# EAGLE library part H3LIS331DL (library KwanSystems)
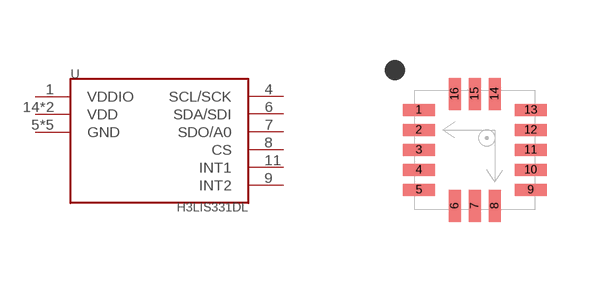
[diagram p19: symbol with the pads of LLGA16; footprint LLGA16]

Designator prefix -

## H3LIS331DL  [LLGA16]
1  VDDIO
4  SCL/SCK
5  GND
6  SDA/SDI
7  SDO/A0
8  CS
9  INT2
10  GND
11  INT1
12  GND
13  GND
14  VDD
15  VDD
16  GND

## Footprint LLGA16 (pad centres in mm)
smd 0.8 x 0.3: 1 -1.4,1; 2 -1.4,0.5; 3 -1.4,0; 4 -1.4,-0.5; 5 -1.4,-1; 9 1.4,-1; 10 1.4,-0.5; 11 1.4,0; 12 1.4,0.5; 13 1.4,1
smd 0.3 x 0.8: 6 -0.5,-1.4; 7 0,-1.4; 8 0.5,-1.4; 14 0.5,1.4; 15 0,1.4; 16 -0.5,1.4